# EAGLE library part IDP_PROTOBOARD_LARGE (library IDP_library)
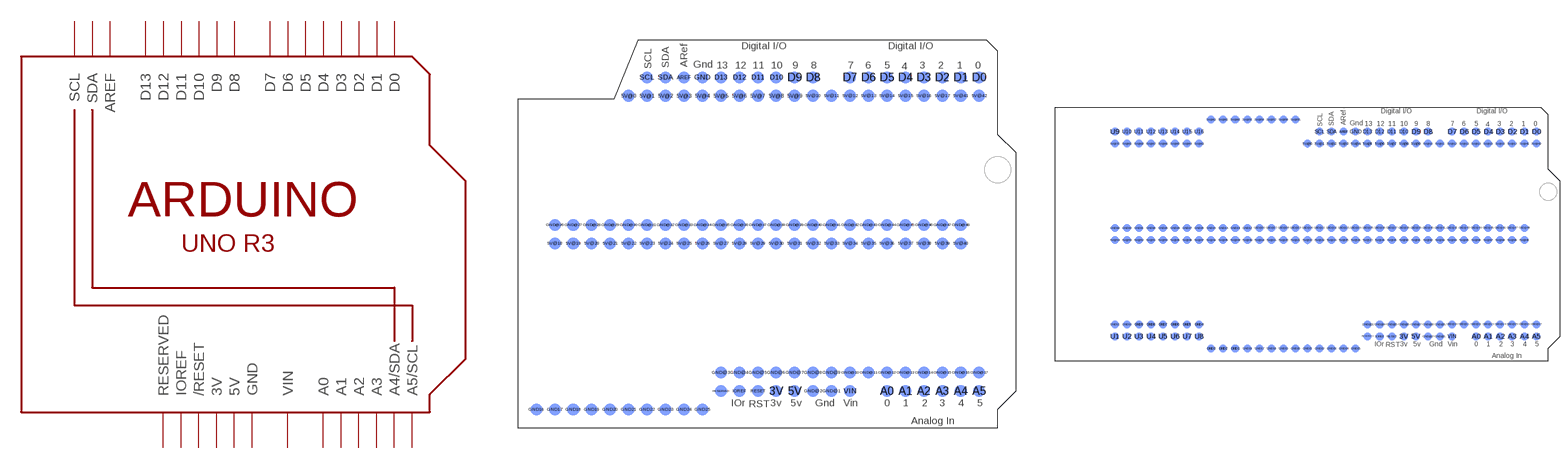
[diagram p27: symbol with the pads of IDP_PROTO; footprints IDP_PROTO, IDP_PROTO_LARGE]

Designator prefix M

## IDP_PROTOBOARD_LARGE  [IDP_PROTO]
3V  3V  pwr
5V  5V  pwr
5V@0  5V  pwr
5V@1  5V  pwr
5V@2  5V  pwr
5V@3  5V  pwr
5V@4  5V  pwr
5V@5  5V  pwr
5V@6  5V  pwr
5V@7  5V  pwr
5V@8  5V  pwr
5V@9  5V  pwr
5V@10  5V  pwr
5V@11  5V  pwr
5V@12  5V  pwr
5V@13  5V  pwr
5V@14  5V  pwr
5V@15  5V  pwr
5V@16  5V  pwr
5V@17  5V  pwr
5V@18  5V  pwr
5V@19  5V  pwr
5V@20  5V  pwr
5V@21  5V  pwr
5V@22  5V  pwr
5V@23  5V  pwr
5V@24  5V  pwr
5V@25  5V  pwr
5V@26  5V  pwr
5V@27  5V  pwr
5V@28  5V  pwr
5V@29  5V  pwr
5V@30  5V  pwr
5V@31  5V  pwr
5V@32  5V  pwr
5V@33  5V  pwr
5V@34  5V  pwr
5V@35  5V  pwr
5V@36  5V  pwr
5V@37  5V  pwr
5V@38  5V  pwr
5V@39  5V  pwr
5V@40  5V  pwr
A0  A0
A1  A1
A2  A2
A3  A3
A4  A4/SDA
A5  A5/SCL
AREF  AREF
D0  D0
D1  D1
D2  D2
D3  D3
D4  D4
D5  D5
D6  D6
D7  D7
D8  D8
D9  D9
D10  D10
D11  D11
D12  D12
D13  D13
GND  GND  pwr
GND16  GND  pwr
GND17  GND  pwr
GND18  GND  pwr
GND19  GND  pwr
GND20  GND  pwr
GND21  GND  pwr
GND22  GND  pwr
GND23  GND  pwr
GND24  GND  pwr
GND25  GND  pwr
GND@1  GND  pwr
GND@2  GND  pwr
GND@3  GND  pwr
GND@4  GND  pwr
GND@5  GND  pwr
GND@6  GND  pwr
GND@7  GND  pwr
GND@8  GND  pwr
GND@9  GND  pwr
GND@10  GND  pwr
GND@11  GND  pwr
GND@12  GND  pwr
GND@13  GND  pwr
GND@14  GND  pwr
GND@15  GND  pwr
GND@26  GND  pwr
GND@27  GND  pwr
GND@28  GND  pwr
GND@29  GND  pwr
GND@30  GND  pwr
GND@31  GND  pwr
GND@32  GND  pwr
GND@33  GND  pwr
GND@34  GND  pwr
GND@35  GND  pwr
GND@36  GND  pwr
GND@37  GND  pwr
GND@38  GND  pwr
GND@39  GND  pwr
GND@40  GND  pwr
GND@41  GND  pwr
GND@42  GND  pwr
GND@43  GND  pwr
GND@44  GND  pwr
GND@45  GND  pwr
GND@46  GND  pwr
GND@47  GND  pwr
GND@48  GND  pwr
IOREF  IOREF  out
RESERVED  RESERVED  nc
RESET  /RESET
SCL  SCL
SDA  SDA
VIN  VIN  nc

## IDP_PROTOBOARD_LARGE_LARGE  [IDP_PROTO_LARGE]
3V  3V  pwr
5V  5V  pwr
5V@0  5V  pwr
5V@1  5V  pwr
5V@2  5V  pwr
5V@3  5V  pwr
5V@4  5V  pwr
5V@5  5V  pwr
5V@6  5V  pwr
5V@7  5V  pwr
5V@8  5V  pwr
5V@9  5V  pwr
5V@10  5V  pwr
5V@11  5V  pwr
5V@12  5V  pwr
5V@13  5V  pwr
5V@14  5V  pwr
5V@15  5V  pwr
5V@16  5V  pwr
5V@17  5V  pwr
5V@18  5V  pwr
5V@19  5V  pwr
5V@20  5V  pwr
5V@21  5V  pwr
5V@22  5V  pwr
5V@23  5V  pwr
5V@24  5V  pwr
5V@25  5V  pwr
5V@26  5V  pwr
5V@27  5V  pwr
5V@28  5V  pwr
5V@29  5V  pwr
5V@30  5V  pwr
5V@31  5V  pwr
5V@32  5V  pwr
5V@33  5V  pwr
5V@34  5V  pwr
5V@35  5V  pwr
5V@36  5V  pwr
5V@37  5V  pwr
5V@38  5V  pwr
5V@39  5V  pwr
5V@40  5V  pwr
5V@41  5V  pwr
5V@42  5V  pwr
5V@43  5V  pwr
5V@44  5V  pwr
5V@45  5V  pwr
5V@46  5V  pwr
5V@47  5V  pwr
5V@48  5V  pwr
5V@49  5V  pwr
5V@50  5V  pwr
5V@51  5V  pwr
5V@52  5V  pwr
5V@53  5V  pwr
5V@54  5V  pwr
5V@55  5V  pwr
5V@56  5V  pwr
5V@57  5V  pwr
5V@58  5V  pwr
5V@59  5V  pwr
5V@60  5V  pwr
5V@61  5V  pwr
5V@62  5V  pwr
5V@63  5V  pwr
5V@64  5V  pwr
5V@65  5V  pwr
5V@66  5V  pwr
5V@67  5V  pwr
5V@68  5V  pwr
5V@69  5V  pwr
5V@70  5V  pwr
A0  A0
A1  A1
A2  A2
A3  A3
A4  A4/SDA
A5  A5/SCL
AREF  AREF
D0  D0
D1  D1
D2  D2
D3  D3
D4  D4
D5  D5
D6  D6
D7  D7
D8  D8
D9  D9
D10  D10
D11  D11
D12  D12
D13  D13
GND  GND  pwr
GND1  GND  pwr
GND2  GND  pwr
GND3  GND  pwr
GND4  GND  pwr
GND5  GND  pwr
GND6  GND  pwr
GND7  GND  pwr
GND8  GND  pwr
GND9  GND  pwr
GND10  GND  pwr
GND11  GND  pwr
GND12  GND  pwr
GND13  GND  pwr
GND14  GND  pwr
GND15  GND  pwr
GND16  GND  pwr
GND17  GND  pwr
GND18  GND  pwr
GND19  GND  pwr
GND20  GND  pwr
GND21  GND  pwr
GND22  GND  pwr
GND23  GND  pwr
GND24  GND  pwr
GND25  GND  pwr
GND26  GND  pwr
GND27  GND  pwr
GND28  GND  pwr
GND29  GND  pwr
GND30  GND  pwr
GND31  GND  pwr
GND32  GND  pwr
GND33  GND  pwr
GND@1  GND  pwr
GND@2  GND  pwr
GND@3  GND  pwr
GND@4  GND  pwr
GND@5  GND  pwr
GND@6  GND  pwr
GND@7  GND  pwr
GND@8  GND  pwr
GND@9  GND  pwr
GND@10  GND  pwr
GND@11  GND  pwr
GND@12  GND  pwr
GND@13  GND  pwr
GND@14  GND  pwr
GND@15  GND  pwr
GND@16  GND  pwr
GND@17  GND  pwr
GND@26  GND  pwr
GND@27  GND  pwr
GND@28  GND  pwr
GND@29  GND  pwr
GND@30  GND  pwr
GND@31  GND  pwr
GND@32  GND  pwr
GND@33  GND  pwr
GND@34  GND  pwr
GND@35  GND  pwr
GND@36  GND  pwr
GND@37  GND  pwr
GND@38  GND  pwr
GND@39  GND  pwr
GND@40  GND  pwr
GND@41  GND  pwr
GND@42  GND  pwr
GND@43  GND  pwr
GND@44  GND  pwr
GND@45  GND  pwr
GND@46  GND  pwr
GND@47  GND  pwr
GND@48  GND  pwr
IOREF  IOREF  out
RESERVED  RESERVED  nc
RESET  /RESET
SCL  SCL
SDA  SDA
VIN  VIN  nc

## Footprint IDP_PROTO (pad centres in mm)
smd 1.676 x 1.676 bottom: 3V 35.56,5.08; 5V 38.1,5.08; 5V@0 15.24,45.72; 5V@1 17.78,45.72; 5V@2 20.32,45.72; 5V@3 22.86,45.72; 5V@4 25.4,45.72; 5V@5 27.94,45.72; 5V@6 30.48,45.72; 5V@7 33.02,45.72; 5V@8 35.56,45.72; 5V@9 38.1,45.72; 5V@10 40.64,45.72; 5V@11 43.18,45.72; 5V@12 45.72,45.72; 5V@13 48.26,45.72; 5V@14 50.8,45.72; 5V@15 53.34,45.72; 5V@16 55.88,45.72; 5V@17 58.42,45.72; 5V@18 5.08,25.4; 5V@19 7.62,25.4; 5V@20 10.16,25.4; 5V@21 12.7,25.4; 5V@22 15.24,25.4; 5V@23 17.78,25.4; 5V@24 20.32,25.4; 5V@25 22.86,25.4; 5V@26 25.4,25.4; 5V@27 27.94,25.4; 5V@28 30.48,25.4; 5V@29 33.02,25.4; 5V@30 35.56,25.4; 5V@31 38.1,25.4; 5V@32 40.64,25.4; 5V@33 43.18,25.4; 5V@34 45.72,25.4; 5V@35 48.26,25.4; 5V@36 50.8,25.4; 5V@37 53.34,25.4; 5V@38 55.88,25.4; 5V@39 58.42,25.4; 5V@40 60.96,25.4; 5V@41 60.96,45.72; 5V@42 63.5,45.72; A0 50.8,5.08; A1 53.34,5.08; A2 55.88,5.08; A3 58.42,5.08; A4 60.96,5.08; A5 63.5,5.08; AREF 22.86,48.26; D0 63.5,48.26; D1 60.96,48.26; D2 58.42,48.26; D3 55.88,48.26; D4 53.34,48.26; D5 50.8,48.26; D6 48.26,48.26; D7 45.72,48.26; D8 40.64,48.26; D9 38.1,48.26; D10 35.56,48.26; D11 33.02,48.26; D12 30.48,48.26; D13 27.94,48.26; GND 25.4,48.26; GND16 2.54,2.54; GND17 5.08,2.54; GND18 7.62,2.54; GND19 10.16,2.54; GND20 12.7,2.54; GND21 15.24,2.54; GND22 17.78,2.54; GND23 20.32,2.54; GND24 22.86,2.54; GND25 25.4,2.54; GND@1 43.18,5.08; GND@2 40.64,5.08; GND@3 27.94,7.62; GND@4 30.48,7.62; GND@5 33.02,7.62; GND@6 35.56,7.62; GND@7 38.1,7.62; GND@8 40.64,7.62; GND@9 43.18,7.62; GND@10 45.72,7.62; GND@11 48.26,7.62; GND@12 50.8,7.62; GND@13 53.34,7.62; GND@14 55.88,7.62; GND@15 58.42,7.62; GND@16 60.96,7.62; GND@17 63.5,7.62; GND@26 5.08,27.94; GND@27 7.62,27.94; GND@28 10.16,27.94; GND@29 12.7,27.94; GND@30 15.24,27.94; GND@31 17.78,27.94; GND@32 20.32,27.94; GND@33 22.86,27.94; GND@34 25.4,27.94; GND@35 27.94,27.94; GND@36 30.48,27.94; GND@37 33.02,27.94; GND@38 35.56,27.94; GND@39 38.1,27.94; GND@40 40.64,27.94; GND@41 43.18,27.94; GND@42 45.72,27.94; GND@43 48.26,27.94; GND@44 50.8,27.94; GND@45 53.34,27.94; GND@46 55.88,27.94; GND@47 58.42,27.94; GND@48 60.96,27.94; IOREF 30.48,5.08; RESERVED 27.94,5.08; RESET 33.02,5.08; SCL 17.78,48.26; SDA 20.32,48.26; VIN 45.72,5.08

## Footprint IDP_PROTO_LARGE (pad centres in mm)
smd 1.676 x 1.676 bottom: 3V 35.56,5.08; 5V 38.1,5.08; 5V@0 15.24,45.72; 5V@1 17.78,45.72; 5V@2 20.32,45.72; 5V@3 22.86,45.72; 5V@4 25.4,45.72; 5V@5 27.94,45.72; 5V@6 30.48,45.72; 5V@7 33.02,45.72; 5V@8 35.56,45.72; 5V@9 38.1,45.72; 5V@10 40.64,45.72; 5V@11 43.18,45.72; 5V@12 45.72,45.72; 5V@13 48.26,45.72; 5V@14 50.8,45.72; 5V@15 53.34,45.72; 5V@16 55.88,45.72; 5V@17 58.42,45.72; 5V@18 5.08,25.4; 5V@19 7.62,25.4; 5V@20 10.16,25.4; 5V@21 12.7,25.4; 5V@22 15.24,25.4; 5V@23 17.78,25.4; 5V@24 20.32,25.4; 5V@25 22.86,25.4; 5V@26 25.4,25.4; 5V@27 27.94,25.4; 5V@28 30.48,25.4; 5V@29 33.02,25.4; 5V@30 35.56,25.4; 5V@31 38.1,25.4; 5V@32 40.64,25.4; 5V@33 43.18,25.4; 5V@34 45.72,25.4; 5V@35 48.26,25.4; 5V@36 50.8,25.4; 5V@37 53.34,25.4; 5V@38 55.88,25.4; 5V@39 58.42,25.4; 5V@40 60.96,25.4; 5V@41 60.96,45.72; 5V@42 63.5,45.72; 5V@43 2.54,25.4; 5V@44 0,25.4; 5V@45 -2.54,25.4; 5V@46 -5.08,25.4; 5V@47 -7.62,25.4; 5V@48 -10.16,25.4; 5V@49 -12.7,25.4; 5V@50 -15.24,25.4; 5V@51 -17.78,25.4; 5V@52 -20.32,25.4; 5V@53 -22.86,25.4; 5V@54 -25.4,25.4; 5V@55 12.7,50.8; 5V@56 10.16,50.8; 5V@57 7.62,50.8; 5V@58 5.08,50.8; 5V@59 2.54,50.8; 5V@60 0,50.8; 5V@61 -2.54,50.8; 5V@62 -5.08,50.8; 5V@63 -7.62,45.72; 5V@64 -10.16,45.72; 5V@65 -12.7,45.72; 5V@66 -15.24,45.72; 5V@67 -17.78,45.72; 5V@68 -20.32,45.72; 5V@69 -22.86,45.72; 5V@70 -25.4,45.72; A0 50.8,5.08; A1 53.34,5.08; A2 55.88,5.08; A3 58.42,5.08; A4 60.96,5.08; A5 63.5,5.08; AREF 22.86,48.26; D0 63.5,48.26; D1 60.96,48.26; D2 58.42,48.26; D3 55.88,48.26; D4 53.34,48.26; D5 50.8,48.26; D6 48.26,48.26; D7 45.72,48.26; D8 40.64,48.26; D9 38.1,48.26; D10 35.56,48.26; D11 33.02,48.26; D12 30.48,48.26; D13 27.94,48.26; GND 25.4,48.26; GND1 0,2.54; GND2 -2.54,2.54; GND3 -5.08,2.54; GND4 -7.62,7.62; GND5 -10.16,7.62; GND6 -12.7,7.62; GND7 -15.24,7.62; GND8 -17.78,7.62; GND9 -20.32,7.62; GND10 -22.86,7.62; GND11 -25.4,7.62; GND12 2.54,27.94; GND13 0,27.94; GND14 -2.54,27.94; GND15 -5.08,27.94; GND16 2.54,2.54; GND17 5.08,2.54; GND18 7.62,2.54; GND19 10.16,2.54; GND20 12.7,2.54; GND21 15.24,2.54; GND22 17.78,2.54; GND23 20.32,2.54; GND24 22.86,2.54; GND25 25.4,2.54; GND26 -7.62,27.94; GND27 -10.16,27.94; GND28 -12.7,27.94; GND29 -15.24,27.94; GND30 -17.78,27.94; GND31 -20.32,27.94; GND32 -22.86,27.94; GND33 -25.4,27.94; GND@1 43.18,5.08; GND@2 40.64,5.08; GND@3 27.94,7.62; GND@4 30.48,7.62; GND@5 33.02,7.62; GND@6 35.56,7.62; GND@7 38.1,7.62; GND@8 40.64,7.62; GND@9 43.18,7.62; GND@10 45.72,7.62; GND@11 48.26,7.62; GND@12 50.8,7.62; GND@13 53.34,7.62; GND@14 55.88,7.62; GND@15 58.42,7.62; GND@16 60.96,7.62; GND@17 63.5,7.62; GND@26 5.08,27.94; GND@27 7.62,27.94; GND@28 10.16,27.94; GND@29 12.7,27.94; GND@30 15.24,27.94; GND@31 17.78,27.94; GND@32 20.32,27.94; GND@33 22.86,27.94; GND@34 25.4,27.94; GND@35 27.94,27.94; GND@36 30.48,27.94; GND@37 33.02,27.94; GND@38 35.56,27.94; GND@39 38.1,27.94; GND@40 40.64,27.94; GND@41 43.18,27.94; GND@42 45.72,27.94; GND@43 48.26,27.94; GND@44 50.8,27.94; GND@45 53.34,27.94; GND@46 55.88,27.94; GND@47 58.42,27.94; GND@48 60.96,27.94; IOREF 30.48,5.08; RESERVED 27.94,5.08; RESET 33.02,5.08; SCL 17.78,48.26; SDA 20.32,48.26; U1 -25.4,5.08; U2 -22.86,5.08; U3 -20.32,5.08; U4 -17.78,5.08; U5 -15.24,5.08; U6 -12.7,5.08; U7 -10.16,5.08; U8 -7.62,5.08; U9 -25.4,48.26; U10 -22.86,48.26; U11 -20.32,48.26; U12 -17.78,48.26; U13 -15.24,48.26; U14 -12.7,48.26; U15 -10.16,48.26; U16 -7.62,48.26; VIN 45.72,5.08